# EAGLE library part HEADER-2X5 (library uClouds_SE_Library)
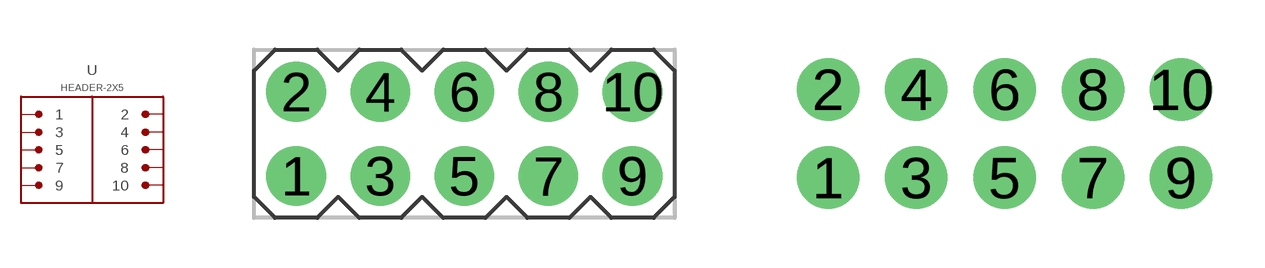
[diagram p1: symbol with the pads of PTH-0.1-2X5-MALE; footprints PTH-0.1-2X5-MALE, PTH-0.1-2X5-FEMALE]

Designator prefix -

## HEADER-2X5-PTH-0.1  [PTH-0.1-2X5-MALE]
1  1
2  2
3  3
4  4
5  5
6  6
7  7
8  8
9  9
10  10

## HEADER-2X5-PTH-0.1-FLIP  [PTH-0.1-2X5-FEMALE]
Pads as for PTH-0.1-2X5-MALE

## HEADER-2X5-PTH-0.1-SHROUDED  [PTH-0.1-2X5-SHROUDED]
Pads as for PTH-0.1-2X5-MALE

## HEADER-2X5-PTH-0.05-SHROUDED  [PTH-0.05-2X5-SHROUDED]
Pads as for PTH-0.1-2X5-MALE

## Footprint PTH-0.1-2X5-MALE (pad centres in mm)
drill 1 pad 1.8: 1 -5.08,-1.27; 2 -5.08,1.27; 3 -2.54,-1.27; 4 -2.54,1.27; 5 0,-1.27; 6 0,1.27; 7 2.54,-1.27; 8 2.54,1.27; 9 5.08,-1.27; 10 5.08,1.27

## Footprint PTH-0.1-2X5-FEMALE (pad centres in mm)
drill 1 pad 1.8: 1 -5.08,-1.27; 2 -5.08,1.27; 3 -2.54,-1.27; 4 -2.54,1.27; 5 0,-1.27; 6 0,1.27; 7 2.54,-1.27; 8 2.54,1.27; 9 5.08,-1.27; 10 5.08,1.27

## Footprint PTH-0.1-2X5-SHROUDED (pad centres in mm)
drill 1 pad 1.8 square: 1 -1.27,5.08
drill 1 pad 1.8: 2 1.27,5.08; 3 -1.27,2.54; 4 1.27,2.54; 5 -1.27,0; 6 1.27,0; 7 -1.27,-2.54; 8 1.27,-2.54; 9 -1.27,-5.08; 10 1.27,-5.08

## Footprint PTH-0.05-2X5-SHROUDED (pad centres in mm)
drill 0.5 pad 0.9 square: 1 -0.635,2.54
drill 0.5 pad 0.9: 2 0.635,2.54; 3 -0.635,1.27; 4 0.635,1.27; 5 -0.635,0; 6 0.635,0; 7 -0.635,-1.27; 8 0.635,-1.27; 9 -0.635,-2.54; 10 0.635,-2.54